# Altium footprint library MyLibrary.PcbLib: 24 footprints (part 1 of 2)
Each footprint in its own frame and in the unit in brackets; x right, y up, seen from the top. Pads: shape width x height; smd on the part's side, far side on the other; paste and mask are expansions set on the pad; w line width, h text height; cw(c..) or ccw(c..) is an arc to the next point about the centre after c.
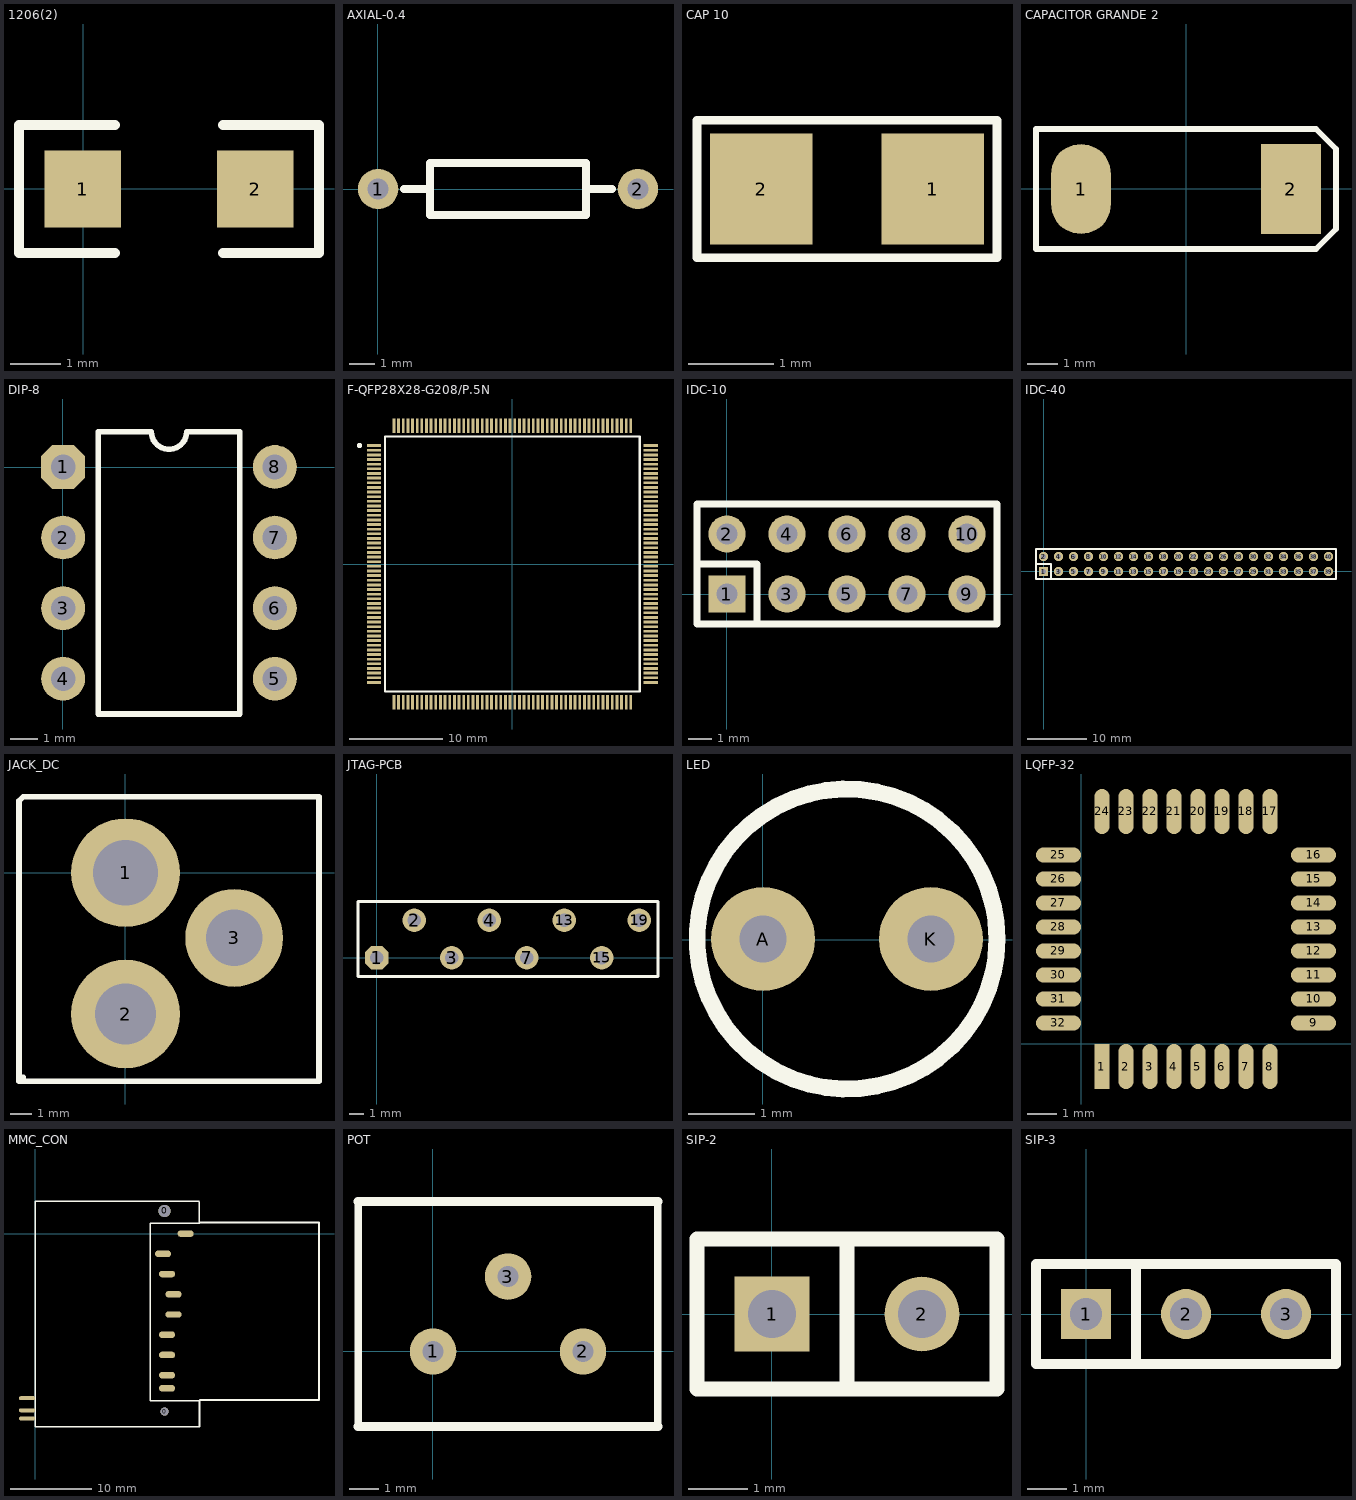
[diagram p0: the footprints below, top view; thin cyan lines are the x and y axes]

## 1206(2) [mil]
pads (2):
  rect 60x60 smd: 1(-0.27,-0.12) 2(134.73,-0.12)
Top Overlay:
  lines w7.87: 24.73,-50.12 -50.27,-50.12 -50.27,49.88 24.73,49.88 ; 109.73,-50.12 184.73,-50.12 184.73,49.88 109.73,49.88

## AXIAL-0.4 [mil]
pads (2):
  round 62 hole 32: 1(0.28,0.42) 2(400.28,0.42)
Top Overlay:
  lines w12: 40.28,0.42 80.28,0.42 ; 320.28,0.42 360.28,0.42 ; 80.28,-39.58 80.28,40.42 320.28,40.42 320.28,-39.58 80.28,-39.58

## CAP 10 [mm]
pads (2):
  rect 1.2x1.3 smd: 1(-1.526,2.474) 2(-3.526,2.474)
Top Overlay:
  lines w0.1: -4.276,1.674 -0.776,1.674 -0.776,2.474 -0.776,3.274 -4.276,3.274 -4.276,1.674

## CAPACITOR GRANDE 2 [mm]
pads (2):
  oval 2x3 smd: 1(-3.506,-0.003)
  rect 2x3 smd: 2(3.494,-0.003)
Top Overlay:
  lines w0.2: -5.006,-2.003 4.327,-2.003 4.994,-1.337 4.994,1.33 4.327,1.997 -5.006,1.997 -5.006,-0.003 -5.006,-2.003

## DIP-8 [mil]
pads (8):
  oct 62x62 hole 35: 1(0.43,0.34)
  round 62 hole 35: 2(0.43,-99.66) 3(0.43,-199.66) 4(0.43,-299.66) 5(300.43,-299.66) 6(300.43,-199.66) 7(300.43,-99.66) 8(300.43,0.34)
Top Overlay:
  lines w7.87: 50.43,-349.66 50.43,50.34 125.43,50.34 ccw(c150.43,50.34) 175.43,50.34 250.43,50.34 250.43,-349.66 50.43,-349.66

## F-QFP28X28-G208/P.5N [mm]
pads (208):
  rect 1.55x0.3 smd: 1(-14.891,12.753) 2(-14.891,12.253) 3(-14.891,11.753) 4(-14.891,11.253) 5(-14.891,10.753) 6(-14.891,10.253) 7(-14.891,9.753) 8(-14.891,9.253) 9(-14.891,8.753) 10(-14.891,8.253) 11(-14.891,7.753) 12(-14.891,7.253) 13(-14.891,6.753) 14(-14.891,6.253) 15(-14.891,5.753) 16(-14.891,5.253) 17(-14.891,4.753) 18(-14.891,4.253) 19(-14.891,3.753) 20(-14.891,3.253) 21(-14.891,2.753) 22(-14.891,2.253) 23(-14.891,1.753) 24(-14.891,1.253) 25(-14.891,0.753) 26(-14.891,0.253) 27(-14.891,-0.247) 28(-14.891,-0.747) 29(-14.891,-1.247) 30(-14.891,-1.747) 31(-14.891,-2.247) 32(-14.891,-2.747) 33(-14.891,-3.247) 34(-14.891,-3.747) 35(-14.891,-4.247) 36(-14.891,-4.747) 37(-14.891,-5.247) 38(-14.891,-5.747) 39(-14.891,-6.247) 40(-14.891,-6.747) 41(-14.891,-7.247) 42(-14.891,-7.747) 43(-14.891,-8.247) 44(-14.891,-8.747) 45(-14.891,-9.247) 46(-14.891,-9.747) 47(-14.891,-10.247) 48(-14.891,-10.747) 49(-14.891,-11.247) 50(-14.891,-11.747) 51(-14.891,-12.247) 52(-14.891,-12.747) 105(14.909,-12.747) 106(14.909,-12.247) 107(14.909,-11.747) 108(14.909,-11.247) 109(14.909,-10.747) 110(14.909,-10.247) 111(14.909,-9.747) 112(14.909,-9.247) 113(14.909,-8.747) 114(14.909,-8.247) 115(14.909,-7.747) 116(14.909,-7.247) 117(14.909,-6.747) 118(14.909,-6.247) 119(14.909,-5.747) 120(14.909,-5.247) 121(14.909,-4.747) 122(14.909,-4.247) 123(14.909,-3.747) 124(14.909,-3.247) 125(14.909,-2.747) 126(14.909,-2.247) 127(14.909,-1.747) 128(14.909,-1.247) 129(14.909,-0.747) 130(14.909,-0.247) 131(14.909,0.253) 132(14.909,0.753) 133(14.909,1.253) 134(14.909,1.753) 135(14.909,2.253) 136(14.909,2.753) 137(14.909,3.253) 138(14.909,3.753) 139(14.909,4.253) 140(14.909,4.753) 141(14.909,5.253) 142(14.909,5.753) 143(14.909,6.253) 144(14.909,6.753) 145(14.909,7.253) 146(14.909,7.753) 147(14.909,8.253) 148(14.909,8.753) 149(14.909,9.253) 150(14.909,9.753) 151(14.909,10.253) 152(14.909,10.753) 153(14.909,11.253) 154(14.909,11.753) 155(14.909,12.253) 156(14.909,12.753)
  rect 0.3x1.55 smd: 53(-12.741,-14.897) 54(-12.241,-14.897) 55(-11.741,-14.897) 56(-11.241,-14.897) 57(-10.741,-14.897) 58(-10.241,-14.897) 59(-9.741,-14.897) 60(-9.241,-14.897) 61(-8.741,-14.897) 62(-8.241,-14.897) 63(-7.741,-14.897) 64(-7.241,-14.897) 65(-6.741,-14.897) 66(-6.241,-14.897) 67(-5.741,-14.897) 68(-5.241,-14.897) 69(-4.741,-14.897) 70(-4.241,-14.897) 71(-3.741,-14.897) 72(-3.241,-14.897) 73(-2.741,-14.897) 74(-2.241,-14.897) 75(-1.741,-14.897) 76(-1.241,-14.897) 77(-0.741,-14.897) 78(-0.241,-14.897) 79(0.259,-14.897) 80(0.759,-14.897) 81(1.259,-14.897) 82(1.759,-14.897) 83(2.259,-14.897) 84(2.759,-14.897) 85(3.259,-14.897) 86(3.759,-14.897) 87(4.259,-14.897) 88(4.759,-14.897) 89(5.259,-14.897) 90(5.759,-14.897) 91(6.259,-14.897) 92(6.759,-14.897) 93(7.259,-14.897) 94(7.759,-14.897) 95(8.259,-14.897) 96(8.759,-14.897) 97(9.259,-14.897) 98(9.759,-14.897) 99(10.259,-14.897) 100(10.759,-14.897) 101(11.259,-14.897) 102(11.759,-14.897) 103(12.259,-14.897) 104(12.759,-14.897) 157(12.759,14.903) 158(12.259,14.903) 159(11.759,14.903) 160(11.259,14.903) 161(10.759,14.903) 162(10.259,14.903) 163(9.759,14.903) 164(9.259,14.903) 165(8.759,14.903) 166(8.259,14.903) 167(7.759,14.903) 168(7.259,14.903) 169(6.759,14.903) 170(6.259,14.903) 171(5.759,14.903) 172(5.259,14.903) 173(4.759,14.903) 174(4.259,14.903) 175(3.759,14.903) 176(3.259,14.903) 177(2.759,14.903) 178(2.259,14.903) 179(1.759,14.903) 180(1.259,14.903) 181(0.759,14.903) 182(0.259,14.903) 183(-0.241,14.903) 184(-0.741,14.903) 185(-1.241,14.903) 186(-1.741,14.903) 187(-2.241,14.903) 188(-2.741,14.903) 189(-3.241,14.903) 190(-3.741,14.903) 191(-4.241,14.903) 192(-4.741,14.903) 193(-5.241,14.903) 194(-5.741,14.903) 195(-6.241,14.903) 196(-6.741,14.903) 197(-7.241,14.903) 198(-7.741,14.903) 199(-8.241,14.903) 200(-8.741,14.903) 201(-9.241,14.903) 202(-9.741,14.903) 203(-10.241,14.903) 204(-10.741,14.903) 205(-11.241,14.903) 206(-11.741,14.903) 207(-12.241,14.903) 208(-12.741,14.903)
Top Overlay:
  circle w0.25: c-16.466,12.753 r0.15
  lines w0.25: -13.716,-13.722 13.734,-13.722 13.734,13.728 -13.716,13.728 -13.716,-13.722

## IDC-10 [mil]
pads (10):
  rect 62x62 hole 35.43: 1(0.27,0.06)
  round 62 hole 35.43: 2(0.27,100.06) 3(100.27,0.06) 4(100.27,100.06) 5(200.27,0.06) 6(200.27,100.06) 7(300.27,0.06) 8(300.27,100.06) 9(400.27,0.06) 10(400.27,100.06)
Top Overlay:
  lines w12: -49.73,50.06 50.27,50.06 50.27,-49.94 ; -49.73,-49.94 450.27,-49.94 450.27,150.06 -49.73,150.06 -49.73,-49.94

## IDC-40 [mil]
pads (40):
  rect 62x62 hole 35.43: 1(-0.12,-0.39)
  round 62 hole 35.43: 2(-0.12,99.61) 3(99.88,-0.39) 4(99.88,99.61) 5(199.88,-0.39) 6(199.88,99.61) 7(299.88,-0.39) 8(299.88,99.61) 9(399.88,-0.39) 10(399.88,99.61) 11(499.88,-0.39) 12(499.88,99.61) 13(599.88,-0.39) 14(599.88,99.61) 15(699.88,-0.39) 16(699.88,99.61) 17(799.88,-0.39) 18(799.88,99.61) 19(899.88,-0.39) 20(899.88,99.61) 21(999.88,-0.39) 22(999.88,99.61) 23(1099.88,-0.39) 24(1099.88,99.61) 25(1199.88,-0.39) 26(1199.88,99.61) 27(1299.88,-0.39) 28(1299.88,99.61) 29(1399.88,-0.39) 30(1399.88,99.61) 31(1499.88,-0.39) 32(1499.88,99.61) 33(1599.88,-0.39) 34(1599.88,99.61) 35(1699.88,-0.39) 36(1699.88,99.61) 37(1799.88,-0.39) 38(1799.88,99.61) 39(1899.88,-0.39) 40(1899.88,99.61)
Top Overlay:
  lines w12: -50.12,49.61 49.88,49.61 49.88,-50.39 ; -50.12,-50.39 1949.88,-50.39 1949.88,149.61 -50.12,149.61 -50.12,-50.39

## JACK_DC [mm]
pads (3):
  round 5 hole 3: 1(0.01,0)
  round 5 hole 2.8: 2(0.01,-6.5)
  round 4.5 hole 2.6: 3(5.01,-3)
Top Overlay:
  lines w0.254: -4.69,-9.4 -4.89,-9.6 ; -4.89,-9.6 -4.89,3.3 -4.69,3.5 8.91,3.5 8.91,-9.6 -4.89,-9.6

## JTAG-PCB [mil]
pads (8):
  oct 62x62 hole 35: 1(-0.2,-0.38)
  round 62 hole 35: 2(99.8,99.62) 3(199.8,-0.38) 4(299.8,99.62) 7(399.8,-0.38) 13(499.8,99.62) 15(599.8,-0.38) 19(699.8,99.62)
Top Overlay:
  lines w8: -50.2,-50.38 749.8,-50.38 749.8,149.62 -50.2,149.62 -50.2,-50.38

## LED [mil]
pads (2):
  round 62 hole 28: A(0.26,0.45) K(100.26,0.45)
Top Overlay:
  circle w10: c50.26,0.45 r89.44

## LQFP-32 [mm]
pads (32):
  rect 0.5x1.5 smd: 1(0.687,-0.753)
  oval 0.5x1.5 smd: 2(1.487,-0.753) 3(2.287,-0.753) 4(3.087,-0.753) 5(3.887,-0.753) 6(4.687,-0.753) 7(5.487,-0.753) 8(6.287,-0.753) 17(6.287,7.747) 18(5.487,7.747) 19(4.687,7.747) 20(3.887,7.747) 21(3.087,7.747) 22(2.287,7.747) 23(1.487,7.747) 24(0.687,7.747)
  oval 1.5x0.5 smd: 9(7.737,0.697) 10(7.737,1.497) 11(7.737,2.297) 12(7.737,3.097) 13(7.737,3.897) 14(7.737,4.697) 15(7.737,5.497) 16(7.737,6.297) 25(-0.763,6.297) 26(-0.763,5.497) 27(-0.763,4.697) 28(-0.763,3.897) 29(-0.763,3.097) 30(-0.763,2.297) 31(-0.763,1.497) 32(-0.763,0.697)

## MMC_CON [mm]
pads (14):
  round 1 hole 1: 0(15.995,-22.006)
  round 1.5 hole 1.5: 0(15.995,2.794)
  oval 2x0.8 smd: 1(15.805,-2.506) 2(16.305,-5.006) 3(17.105,-7.506) 4(17.105,-10.006) 5(16.305,-12.506) 6(16.305,-15.006) 7(16.305,-17.506) 8(16.305,-19.131) 9(18.605,-0.006)
  oval 2x0.5 smd: 10(-1.005,-22.856) 11(-1.005,-21.856) 12(-1.005,-20.356)
Top Overlay:
  lines w0.2: -0.005,3.494 -0.005,3.994 20.295,3.994 ; -0.005,3.55 -0.005,-23.882 20.295,-23.882 ; 20.295,1.394 20.295,1.594 ; 20.295,1.638 20.295,3.894 ; 20.315,-23.882 20.315,-20.656 14.219,-20.656 14.219,1.294 20.315,1.294
  lines w0.254: 20.395,-20.606 34.995,-20.606 ; 20.395,1.394 34.995,1.394 ; 35.095,-20.606 35.095,1.394

## POT [mil]
pads (3):
  round 62 hole 28: 1(0.2,-0.28) 2(200.2,-0.28) 3(100.2,99.72)
Top Overlay:
  lines w10: -99.8,-100.28 -99.8,199.72 ; 300.2,-100.28 300.2,199.72
  lines w12: -99.8,-100.28 300.2,-100.28 ; -99.8,199.72 200.2,199.72 300.2,199.72

## SIP-2 [mil]
pads (2):
  rect 50x50 hole 32: 1(0.03,0.24)
  round 50 hole 32: 2(100.03,0.24)
Top Overlay:
  lines w10: 50.03,-49.76 50.03,50.24 ; -49.97,-49.76 150.03,-49.76 150.03,50.24 -49.97,50.24 -49.97,-49.76

## SIP-3 [mil]
pads (3):
  rect 50x50 hole 32: 1(-0.42,0.1)
  round 50 hole 32: 2(99.58,0.1) 3(199.58,0.1)
Top Overlay:
  lines w10: 49.58,-49.9 49.58,50.1 ; -50.42,-49.9 249.58,-49.9 249.58,50.1 -50.42,50.1 -50.42,-49.9